# Altium footprint library CAP-SUP.PcbLib: 1 footprints
Each footprint in its own frame and in the unit in brackets; x right, y up, seen from the top. Pads: shape width x height; smd on the part's side, far side on the other; paste and mask are expansions set on the pad; w line width, h text height; cw(c..) or ccw(c..) is an arc to the next point about the centre after c.
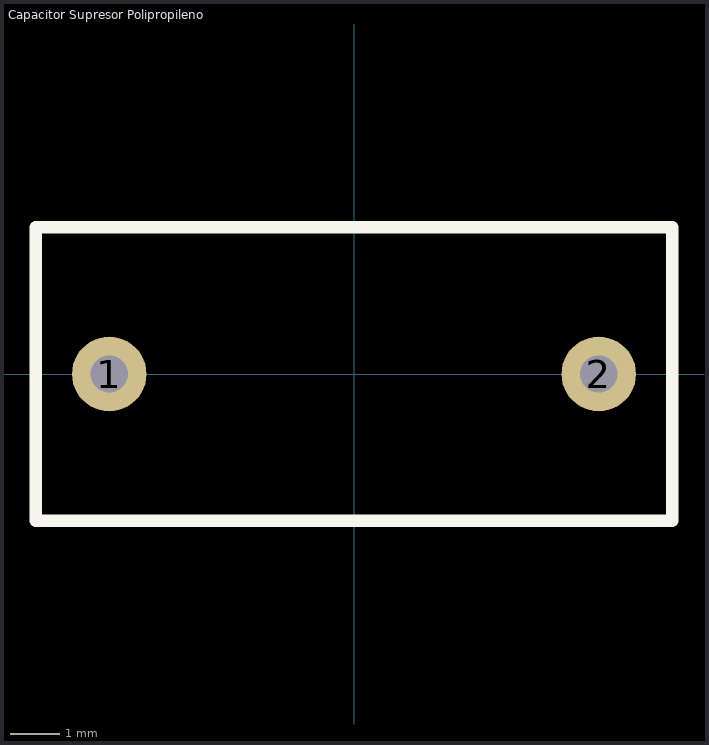
[diagram p0: the footprint, top view; thin cyan lines are the x and y axes]

## Capacitor Supresor Polipropileno [mil] "Capacitor Supresor Polipropileno"
pads (2):
  round 60 hole 30: 1(-196.85,0) 2(196.85,0)
Top Overlay:
  lines w10: -255.91,-118.11 -255.91,118.11 255.91,118.11 255.91,-118.11 -255.91,-118.11
3D body "CAP-SUP.stp": height 472.44, standoff -236.22, extent -255.9,-118.11 255.91,118.11